# EAGLE library part *4104 (library digital)
xx4104: Quad level shifter Low-to-high voltage, 3-state outputs
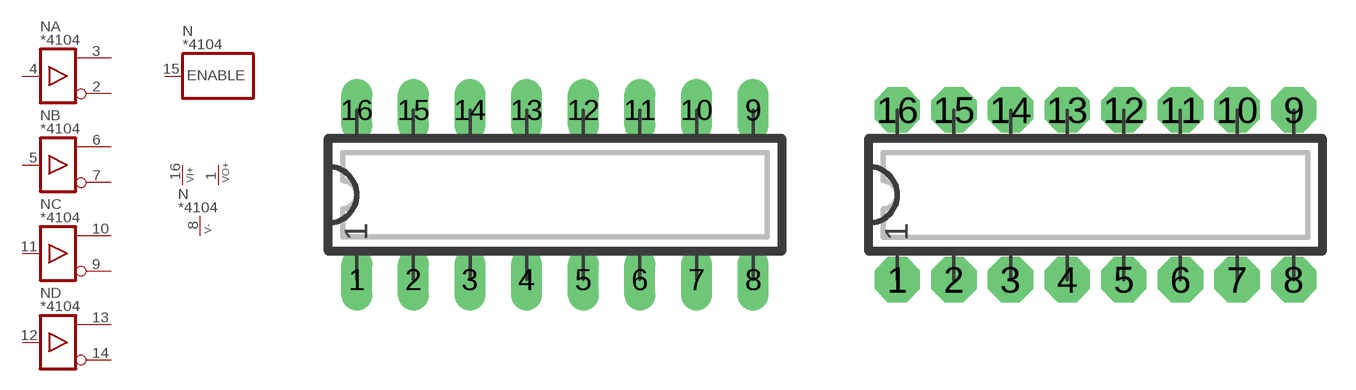
[diagram p39: symbol with the pads of DIP16L; footprints DIP16L, DIP16N]

Designator prefix N; gates A=LEVEL_1 B=LEVEL_1 C=LEVEL_1 D=LEVEL_1 E=ENABLE P=V2+-

## 4104  [DIP16L]
1  P:VO+  pwr
2  A:Q/  out
3  A:Q  out
4  A:I  in
5  B:I  in
6  B:Q  out
7  B:Q/  out
8  P:V-  pwr
9  C:Q/  out
10  C:Q  out
11  C:I  in
12  D:I  in
13  D:Q  out
14  D:Q/  out
15  E:ENABLE  in
16  P:VI+  pwr

## 4104L  [DIP16L]
Pads as for DIP16L

## 4104N  [DIP16N]
Pads as for DIP16L

## 4104R  [DIP16R]
Pads as for DIP16L

## 4104S  [SO16]
Pads as for DIP16L

## Footprint DIP16L (pad centres in mm)
DIP-16, long pads Standard IC package, 16 pins
drill 0.813 pad 1.397 long: 1 0,0; 2 2.54,0; 3 5.08,0; 4 7.62,0; 5 10.16,0; 6 12.7,0; 7 15.24,0; 8 17.78,0; 9 17.78,7.62; 10 15.24,7.62; 11 12.7,7.62; 12 10.16,7.62; 13 7.62,7.62; 14 5.08,7.62; 15 2.54,7.62; 16 0,7.62

## Footprint DIP16N (pad centres in mm)
DIP-16 Standard IC package, 16 pins
drill 0.813 pad 2.032 octagon: 1 0,0; 2 2.54,0; 3 5.08,0; 4 7.62,0; 5 10.16,0; 6 12.7,0; 7 15.24,0; 8 17.78,0; 9 17.78,7.62; 10 15.24,7.62; 11 12.7,7.62; 12 10.16,7.62; 13 7.62,7.62; 14 5.08,7.62; 15 2.54,7.62; 16 0,7.62

## Footprint DIP16R (pad centres in mm)
DIP-16, reduced pads Standard IC package, 16 pins
drill 0.813 pad 1.397 square: 1 0,0; 2 2.54,0; 3 5.08,0; 4 7.62,0; 5 10.16,0; 6 12.7,0; 7 15.24,0; 8 17.78,0; 9 17.78,7.62; 10 15.24,7.62; 11 12.7,7.62; 12 10.16,7.62; 13 7.62,7.62; 14 5.08,7.62; 15 2.54,7.62; 16 0,7.62

## Footprint SO16 (pad centres in mm)
SO-16, SMD SOIC IC package, 16 pins
smd 0.635 x 1.778: 1 -4.445,-2.857; 2 -3.175,-2.857; 3 -1.905,-2.857; 4 -0.635,-2.857; 5 0.635,-2.857; 6 1.905,-2.857; 7 3.175,-2.857; 8 4.445,-2.857; 9 4.445,2.857; 10 3.175,2.857; 11 1.905,2.857; 12 0.635,2.857; 13 -0.635,2.857; 14 -1.905,2.857; 15 -3.175,2.857; 16 -4.445,2.857